# EAGLE library part CONN_04X2 (library digital_dash)
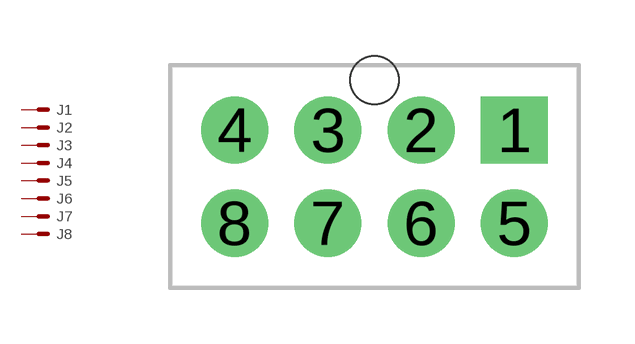
[diagram p12: symbol with the pads of MOLEX-1053102108; footprint MOLEX-1053102108]

Designator prefix J; gates 1=M 2=M 3=M 4=M 5=M 6=M 7=M 8=M

## CONN_04X2  [MOLEX-1053102108]
1  1:S  pas
2  2:S  pas
3  3:S  pas
4  4:S  pas
5  5:S  pas
6  6:S  pas
7  7:S  pas
8  8:S  pas

## Footprint MOLEX-1053102108 (pad centres in mm)
drill 1.2 square: 1 3.75,1.25
drill 1.2 pad 1.7: 2 1.25,1.25; 3 -1.25,1.25; 4 -3.75,1.25; 5 3.75,-1.25; 6 1.25,-1.25; 7 -1.25,-1.25; 8 -3.75,-1.25
hole 1.3 at 0,2.59